# Altium footprint library EHF-110-01-F-D-SM-LC.PcbLib: 1 footprints
Each footprint in its own frame and in the unit in brackets; x right, y up, seen from the top. Pads: shape width x height; smd on the part's side, far side on the other; paste and mask are expansions set on the pad; w line width, h text height; cw(c..) or ccw(c..) is an arc to the next point about the centre after c.
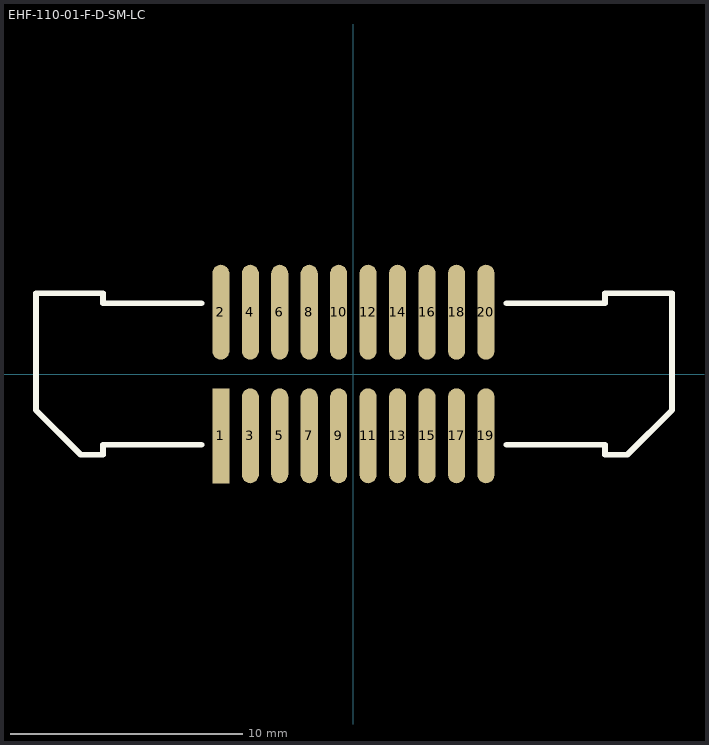
[diagram p0: the footprint, top view; thin cyan lines are the x and y axes]

## EHF-110-01-F-D-SM-LC [mil]
pads (20):
  rect 29x161 smd: 1(-225,-105)
  oval 29x161 smd: 2(-225,105) 3(-175,-105) 4(-175,105) 5(-125,-105) 6(-125,105) 7(-75,-105) 8(-75,105) 9(-25,-105) 10(-25,105) 11(25,-105) 12(25,105) 13(75,-105) 14(75,105) 15(125,-105) 16(125,105) 17(175,-105) 18(175,105) 19(225,-105) 20(225,105)
Top Overlay:
  lines w10: -539,-0.5 -539,-61 -463,-137 -425,-137 -425,-121 ; -539,0.5 -539,137 -425,137 -425,121 ; -425,-120 -258,-120 ; -425,120 -258,120 ; 260,-120 427,-120 ; 260,120 427,120 ; 427,-121 427,-137 465,-137 541,-61 541,-0.5 ; 427,121 427,137 541,137 541,0.5
3D body: height 452.79, standoff 1.5, extent -534.99,-148 535.01,148